# Altium schematic symbol library C1812.SchLib: 1 symbol
Pins are listed as number, name and electrical type; pins without a type are passive.

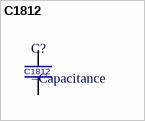
[diagram p0: symbol C1812]

## C1812
designator C?
pins: 1, 2